# Altium schematic symbol library simplex_3.SCHLIB: 34 symbols
Pins are listed as number, name and electrical type; pins without a type are passive.

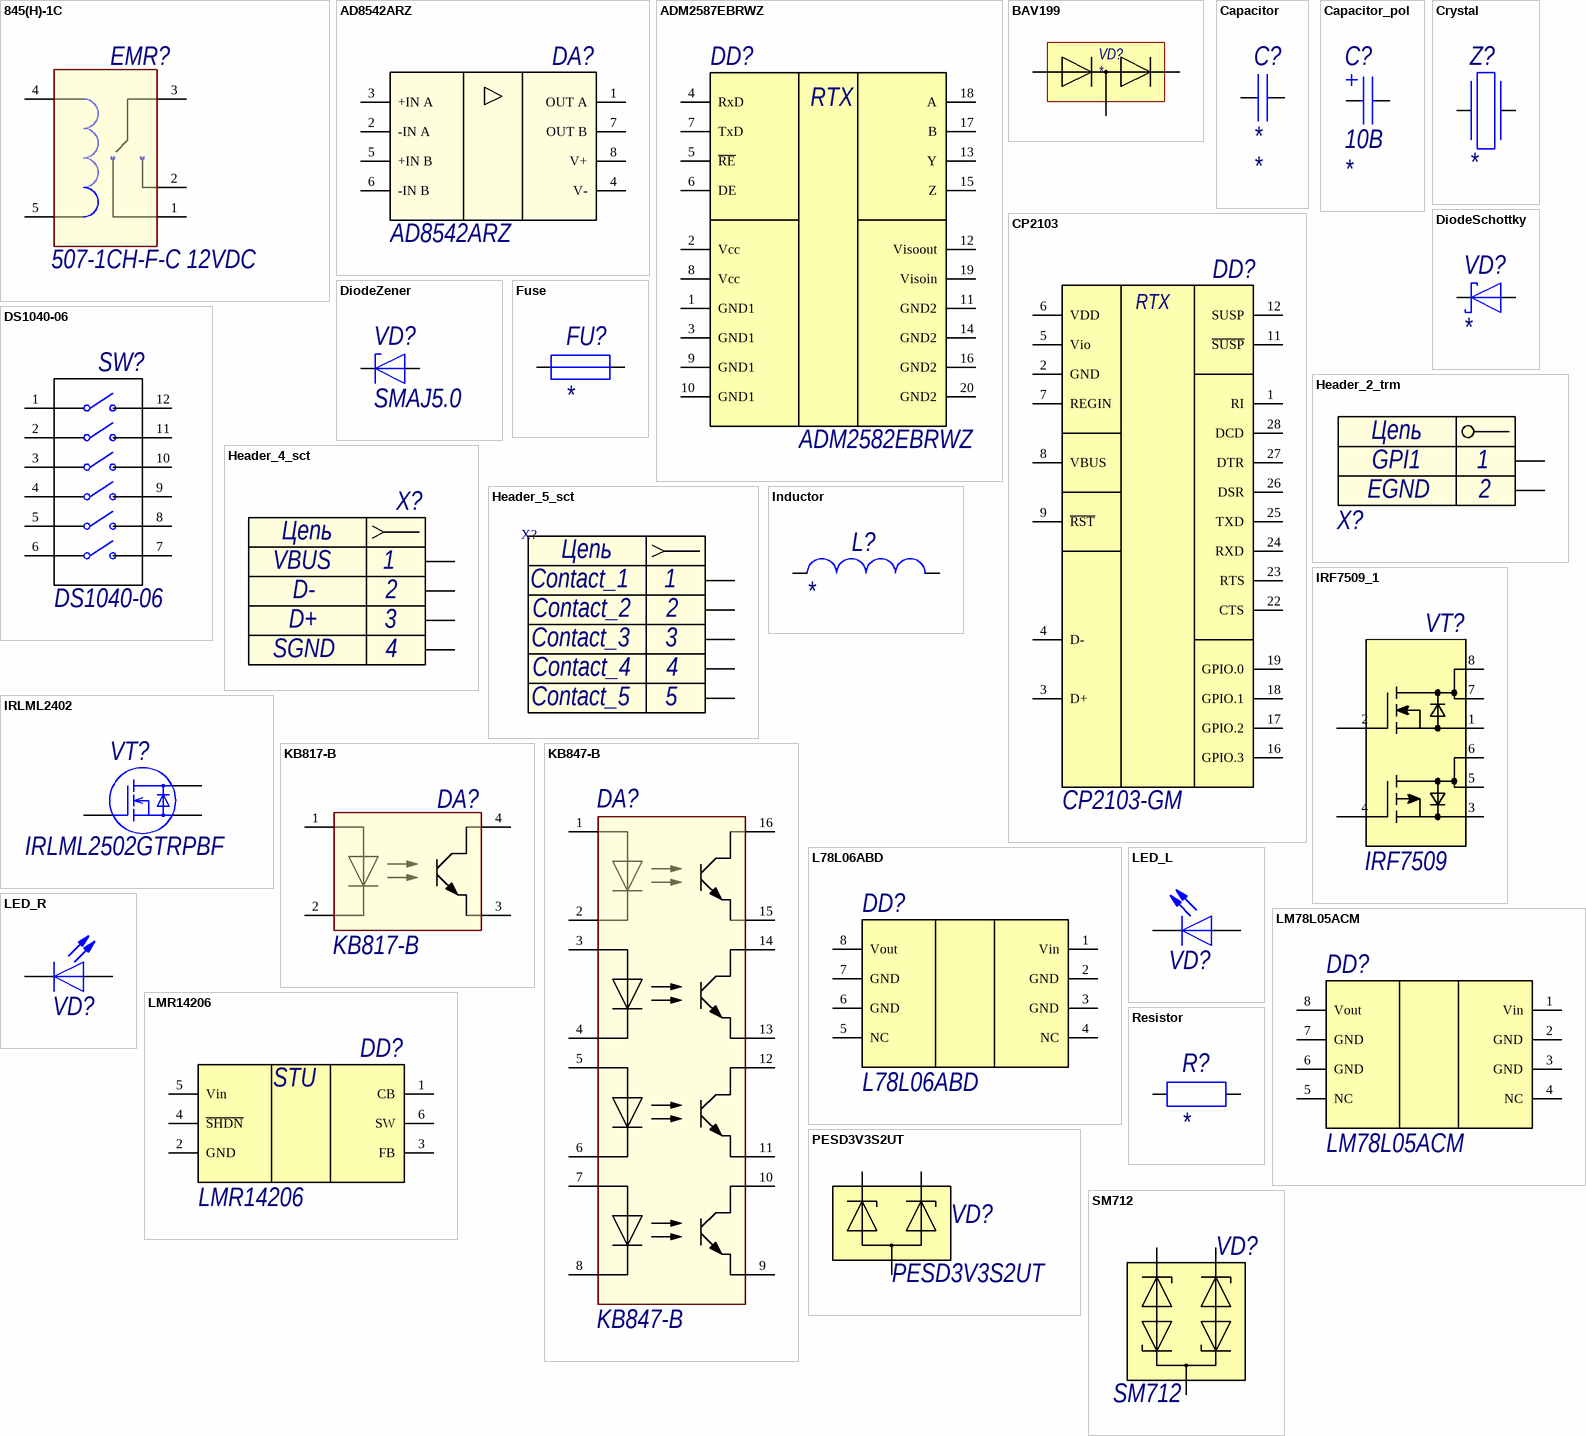
[diagram p0: symbols 845(H)-1C to SM712]

## 845(H)-1C
designator EMR?, comment 507-1CH-F-C 12VDC
Электромагнитное реле 240В 12А; Name: 507-1CH-F-C 12VDC
footprint EMR 845(H)-1C
pins: 1 pos1, 2 pos2, 3 base, 4 sw1, 5 sw2

## AD8542ARZ
designator DA?
Операционный усилитель ±6В; Name: AD8542ARZ
footprint SO8
pins: 1 OUT A, 2 -IN A, 3 +IN A, 4 V-, 5 +IN B, 6 -IN B, 7 OUT B, 8 V+

## ADM2587EBRWZ
designator DD?, comment ADM2582EBRWZ
Приемопередатчик RS485 изолированный; Link: *; Name: ADM2582EBRWZ
footprint SOP20
pins: 1 GND1, 2 Vcc, 3 GND1, 4 RxD, 5 ~{RE}, 6 DE, 7 TxD, 8 Vcc, 9 GND1, 10 GND1, 11 GND2, 12 Visoout, 13 Y, 14 GND2, 15 Z, 16 GND2, 17 B, 18 A, 19 Visoin, 20 GND2
text: RTX

## BAV199
designator VD?
Диодная сборка
footprint SOT23-3
pins: 1, 2, 3

## Capacitor
designator C?
Конденсатор; Name: *; Voltage: *; Value: *
footprint C0402_A
footprint C0603
footprint C0805
footprint C1206
footprint C1210
footprint C1812_A
footprint C1825_A
footprint C2220_A
footprint C2225_A
pins: 1, 2

## Capacitor_pol
designator C?  Voltage: 10В  (hidden comment: *)
Конденсатор поляризованный; Name: *; Value: *
footprint SMDA_A
footprint SMDC_A
footprint SMDB_A
footprint SMDE_A
footprint ECAP10x16R
footprint ECAP8x10_smd
footprint 8 X 12
footprint SMDD
pins: 1, 2

## CP2103
designator DD?, comment CP2103-GM
USB-UART преобразователь; Name: CP2103-GM
footprint CP2103 (QFN, 28-Leads, Body 5,0x5,0mm (max), Pitch 0,50mm, IPC Medium Density)
pins: 1 RI, 2 GND, 3 D+, 4 D-, 5 Vio, 6 VDD, 7 REGIN, 8 VBUS, 9 ~{RST}, 11 ~{SUSP}, 12 SUSP, 16 GPIO.3, 17 GPIO.2, 18 GPIO.1, 19 GPIO.0, 22 CTS, 23 RTS, 24 RXD, 25 TXD, 26 DSR, 27 DTR, 28 DCD
text: RTX

## Crystal
designator Z?
Кварцевый резонатор; Value: *
footprint QSMD3.2x2.5_A
pins: 1, 2

## DiodeSchottky
designator VD?
Диод Шоттки; Name: *
footprint SOD123_A
footprint SMA
footprint SOD523_A
pins: 1 K, 2 A

## DiodeZener
designator VD?, comment SMAJ5.0
Стабилитрон; Name: SMAJ5.0
footprint SMA
footprint SOD523_A
footprint SOT23-2_A
pins: 1 K, 2 A

## DS1040-06
designator SW?
DIP переключатель
footprint DIP6
footprint DIP6
pins: 1, 2, 3, 4, 5, 6, 7, 8, 9, 10, 11, 12

## Fuse
designator FU?, comment MF-MSMF050  (value not drawn)
Предохранитель; Name: MF-MSMF050; Value: *
footprint R0805 (Chip Resistor, 2-Leads, Body 2,10x1,30mm, IPC Medium Density)
footprint R0603
footprint F4X2.5
footprint F5.1
footprint F10.2
footprint S200
footprint S350
footprint R1812
footprint R1210
footprint R0402_A
pins: 1, 2

## Header_2_trm
designator X?, comment 300-021-12  (value not drawn)
Разъем - 2 конт. клемма; Contact_1: GPI1; Contact_2: EGND; Name: 300-021-12
footprint MOLEX_picoblade_2
footprint MW-2M
footprint MW-2MR
footprint PWL-2R
footprint Terminal_2.54-2
footprint PBS2-2
footprint Head2
footprint MF_2x1_H
footprint Power_Jack
footprint RS-103
footprint RS-101
pins: 1, 2
text: Цепь

## Header_4_sct
designator X?, comment 670687041  (value not drawn)
Разъем - 4 конт. розетка; Contact_1: VBUS; Contact_2: D-; Contact_3: D+; Contact_4: SGND; Name: 670687041
footprint MOLEX_picoblade_4
footprint MOLEX_picoblade_4R
footprint MW-4MR
footprint MW-4M
footprint Head4
footprint PLS-4
footprint USBB-J1
pins: 1, 2, 3, 4
text: Цепь

## Header_5_sct
designator X?
Разъем - 5 конт. розетка; Contact_1: Contact_1; Contact_2: Contact_2; Contact_3: Contact_3; Contact_4: Contact_4; Contact_5: Contact_5
footprint MOLEX_picoblade_5
footprint MW-5M
footprint MW-5MR
footprint PLS2-5
pins: 1, 2, 3, 4, 5
text: Цепь

## Inductor
designator L?
Катушка индуктивности; Name: *; Value: *
footprint L0603
footprint CDRH4D28C
footprint SRU1048_A
footprint RCR-875D
footprint CDRH3D16
footprint L0402_A
footprint CDRH2D18/HP
footprint L0805_A
footprint L1210_A
footprint XFL4020
footprint SDRH124
pins: 1, 2

## IRF7509_1
designator VT?, comment IRF7509
Комплементарная сборка МОП; Name: IRF7509
footprint Micro8
pins: 1 S1, 2 G1, 3 S2, 4 G2, 5 D2, 6 D2, 7 D1, 8 D1

## IRLML2402
designator VT?, comment IRLML2502GTRPBF
MOSFET; Manufacturer: International Rectifier; FET Type: MOSFET N-Channel, Metal Oxide; FET Feature: Logic Level Gate; Drain to Source Voltage (Vdss): 20V; Current - Continuous Drain (Id) @ 25°C: 1.2A (Ta); Rds On (Max) @ Id, Vgs: 250 mOhm @ 930mA, 4.5V; Vgs(th) (Max) @ Id: 700mV @ 250µA; Gate Charge (Qg) @ Vgs: 3.9nC @ 4.5V; Input Capacitance (Ciss) @ Vds: 110pF @ 15V; Power - Max: 540mW; Supplier 1: Digi-Key; Supplier Part Number 1: IRLML2402GTRPBFTR-ND; Category: Discrete Semiconductor Products; Packaging: Tape & Reel (TR); Supplier: Digi-Key; RoHS: RoHS Compliant; Mounting Type: Surface Mount; Package / Case: TO-236-3, SC-59, SOT-23-3; Supplier Device Package: Micro3™/SOT-23; Supplier Part Number: IRLML2402GTRPBFTR-ND; name: IRLML2502GTRPBF; Manufacturer Part Number: IRLML2502GTRPBF
footprint SOT23-3_H
footprint SOT23-3_A
pins: 1 G, 2 S, 3 D

## KB817-B
designator DA?
Опторазвязка; Value: *; Name: KB817-B
footprint OPTO-4 (SOP, 4-Leads, Body 4,58x6,50mm, Pitch 2,54mm, IPC Medium Density)
pins: 1, 2, 3, 4

## KB847-B
designator DA?
Опторазвязка х4; Value: *; Name: KB847-B
footprint OPTO-16
pins: 1, 2, 3, 4, 5, 6, 7, 8, 9, 10, 11, 12, 13, 14, 15, 16

## L78L06ABD
designator DD?
6V 100mA Low-Dropout Linear Regulator; Name: L78L06ABD
footprint SO8
pins: 1 Vin, 2 GND, 3 GND, 4 NC, 5 NC, 6 GND, 7 GND, 8 Vout

## LED_L
designator VD?, comment KP-1608QBC-D  (value not drawn)
Светодиод; Name: KP-1608QBC-D
footprint D0603
pins: 1 K, 2 A

## LED_R
designator VD?, comment KP-1608SURCK  (value not drawn)
Светодиод; Name: KP-1608SURCK
footprint D0603
pins: 1 K, 2 A

## LM78L05ACM
designator DD?
5V 100mA Low-Dropout Linear Regulator; Name: LM78L05ACM
footprint SO8
pins: 1 Vin, 2 GND, 3 GND, 4 NC, 5 NC, 6 GND, 7 GND, 8 Vout

## LMR14206
designator DD?
DC\DC; Name: LMR14206
footprint SOT23-6
pins: 1 CB, 2 GND, 3 FB, 4 ~{SHDN}, 5 Vin, 6 SW
text: STU

## PESD3V3S2UT
designator VD?
Сборка TVS-диодов; Name: PESD3V3S2UT
footprint SOT23-3
pins: 1, 2, 3

## Resistor
designator R?
Резистор; Name: *; Value: *
footprint R0402_A
footprint R0805 (Chip Resistor, 2-Leads, Body 2,10x1,30mm, IPC Medium Density)
footprint R1206_A
footprint R1210
footprint R2010_A
footprint R2512_A
footprint R0603
pins: 1, 2

## SM712
designator VD?
Сборка TVS-диодов; Name: SM712
footprint SOT23-3
pins: 1, 2, 3

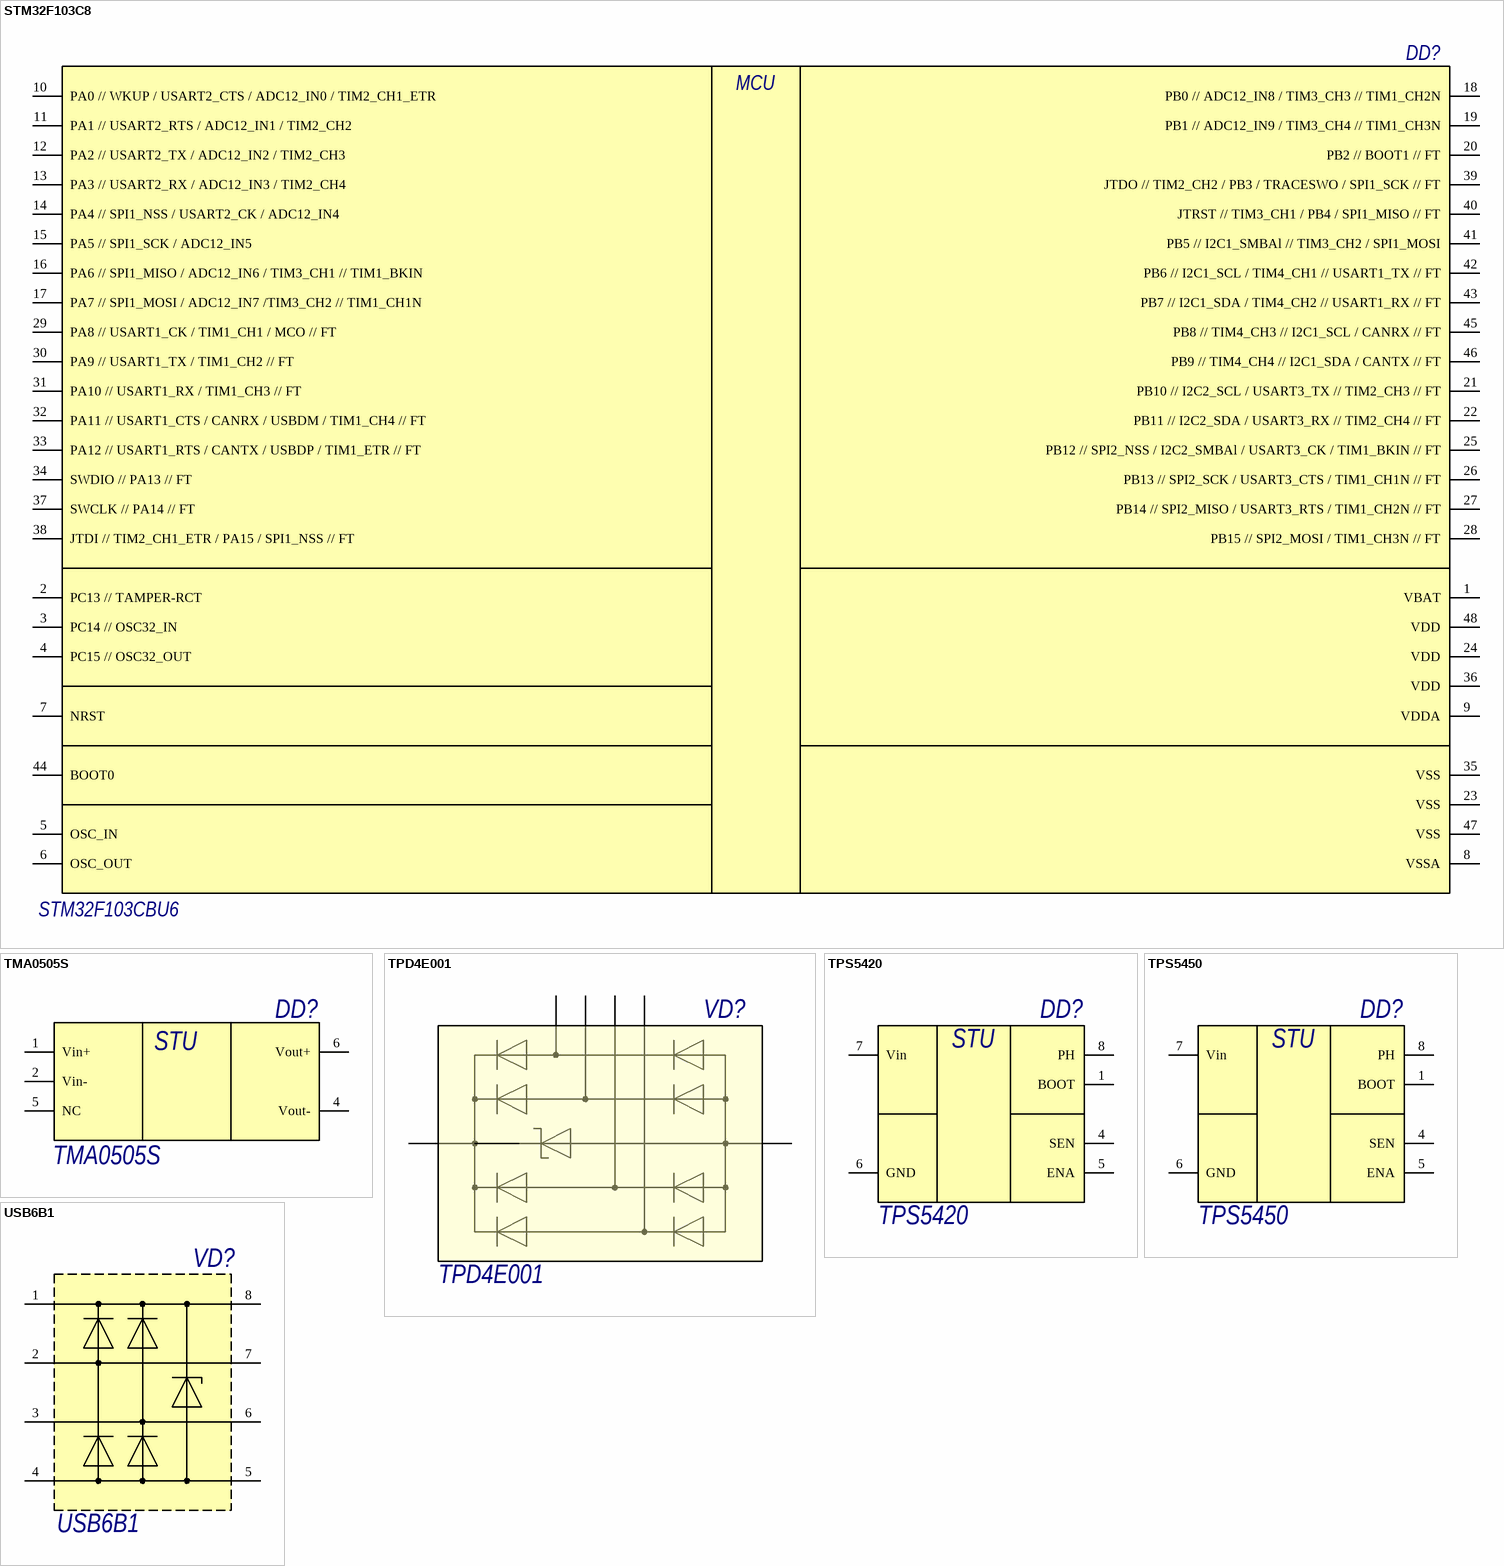
[diagram p1: symbols STM32F103C8 to USB6B1]

## STM32F103C8
designator DD?, comment STM32F103CBU6
Микроконтроллер; Name: STM32F103CBU6
footprint LQFP48_N (Thin QFP, 48-Leads, Body 7x7mm, Pitch 0.5mm, IPC Medium Density)
pins: 1 VBAT, 2 PC13 // TAMPER-RCT, 3 PC14 // OSC32_IN, 4 PC15 // OSC32_OUT, 5 OSC_IN, 6 OSC_OUT, 7 NRST, 8 VSSA, 9 VDDA, 10 PA0 // WKUP / USART2_CTS / ADC12_IN0 / TIM2_CH1_ETR, 11 PA1 // USART2_RTS / ADC12_IN1 / TIM2_CH2, 12 PA2 // USART2_TX / ADC12_IN2 / TIM2_CH3, 13 PA3 // USART2_RX / ADC12_IN3 / TIM2_CH4, 14 PA4 // SPI1_NSS / USART2_CK / ADC12_IN4, 15 PA5 // SPI1_SCK / ADC12_IN5, 16 PA6 // SPI1_MISO / ADC12_IN6 / TIM3_CH1 // TIM1_BKIN, 17 PA7 // SPI1_MOSI / ADC12_IN7 /TIM3_CH2 // TIM1_CH1N, 18 PB0 // ADC12_IN8 / TIM3_CH3 // TIM1_CH2N, 19 PB1 // ADC12_IN9 / TIM3_CH4 // TIM1_CH3N, 20 PB2 // BOOT1 // FT, 21 PB10 // I2C2_SCL / USART3_TX // TIM2_CH3 // FT, 22 PB11 // I2C2_SDA / USART3_RX // TIM2_CH4 // FT, 23 VSS, 24 VDD, 25 PB12 // SPI2_NSS / I2C2_SMBAl / USART3_CK / TIM1_BKIN // FT, 26 PB13 // SPI2_SCK / USART3_CTS / TIM1_CH1N // FT, 27 PB14 // SPI2_MISO / USART3_RTS / TIM1_CH2N // FT, 28 PB15 // SPI2_MOSI / TIM1_CH3N // FT, 29 PA8 // USART1_CK / TIM1_CH1 / MCO // FT, 30 PA9 // USART1_TX / TIM1_CH2 // FT, 31 PA10 // USART1_RX / TIM1_CH3 // FT, 32 PA11 // USART1_CTS / CANRX / USBDM / TIM1_CH4 // FT, 33 PA12 // USART1_RTS / CANTX / USBDP / TIM1_ETR // FT, 34 SWDIO // PA13 // FT, 35 VSS, 36 VDD, 37 SWCLK // PA14 // FT, 38 JTDI // TIM2_CH1_ETR / PA15 / SPI1_NSS // FT, 39 JTDO // TIM2_CH2 / PB3 / TRACESWO / SPI1_SCK // FT, 40 JTRST // TIM3_CH1 / PB4 / SPI1_MISO // FT, 41 PB5 // I2C1_SMBAl // TIM3_CH2 / SPI1_MOSI, 42 PB6 // I2C1_SCL / TIM4_CH1 // USART1_TX // FT, 43 PB7 // I2C1_SDA / TIM4_CH2 // USART1_RX // FT, 44 BOOT0, 45 PB8 // TIM4_CH3 // I2C1_SCL / CANRX // FT, 46 PB9 // TIM4_CH4 // I2C1_SDA / CANTX // FT, 47 VSS, 48 VDD
text: MCU

## TMA0505S
designator DD?
DC/DC преобразователь; name: TMA0505S
footprint TMH 0505
pins: 1 Vin+, 2 Vin-, 4 Vout-, 5 NC, 6 Vout+
text: STU

## TPD4E001
designator VD?
Диодная сборка; Manufacturer: Texas Instruments; Name: TPD4E001
footprint SOT23-6
pins: 1 IO1, 2 GND, 3 IO2, 4 IO3, 5 VCC, 6 IO4

## TPS5420
designator DD?  (value not drawn)
DC/DC преобразователь; name: TPS5420
footprint SO8
pins: 1 BOOT, 4 SEN, 5 ENA, 6 GND, 7 Vin, 8 PH
text: STU

## TPS5450
designator DD?, comment name  (value not drawn)
DC/DC преобразователь; name: TPS5450
footprint SO8_PowerPad
pins: 1 BOOT, 4 SEN, 5 ENA, 6 GND, 7 Vin, 8 PH
text: STU

## USB6B1
designator VD?
Защита линии данных; Name: USB6B1
footprint SO8
pins: 1, 2, 3, 4, 5, 6, 7, 8